# Altium schematic symbol library C3225X7R2A225K230AM.SchLib: 1 symbol
Pins are listed as number, name and electrical type; pins without a type are passive.

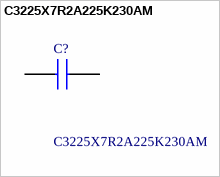
[diagram p0: symbol C3225X7R2A225K230AM]

## C3225X7R2A225K230AM
designator C?
MULTILAYER CERAMIC CHIP CAPACITORS, 3225, Commercial grade, general (Up to 75V); Manufacturer_Name: TDK; Mouser Part Number: 810-C3225X7R2A225KT5; Mouser Price/Stock: https://www.mouser.co.uk/ProductDetail/TDK/C3225X7R2A225K230AM?qs=LcTL%2F5vFEzFqvsZK9aVShQ%3D%3D; Manufacturer_Part_Number: C3225X7R2A225K230AM; Datasheet Link: https://product.tdk.com/info/en/catalog/datasheets/mlcc_commercial_midvoltage_en.pdf
footprint CAPC0000X0N
pins: 1, 2